# Altium integrated library MBR0520LT1G.IntLib: 1 symbol
Pins are listed as number, name and electrical type; pins without a type are passive.

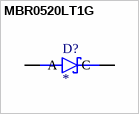
[diagram p0: symbol MBR0520LT1G]

## MBR0520LT1G
designator D?
Diode Schottky 20 V 500mA Surface Mount SOD-123; MF: ON Semiconductor; MP: MBR0520LT1G; SnapEDA_Link: https://www.snapeda.com/parts/MBR0520LT1G/Onsemi/view-part/?ref=snap; Package: SOD-123-2 ON Semiconductor; Value: *; Check_prices: https://www.snapeda.com/parts/MBR0520LT1G/Onsemi/view-part/?ref=eda
footprint SOD3716X135N
pins: A, C